# Altium schematic symbol library EMDC_Miscellaneous.SchLib: 50 symbols
Pins are listed as number, name and electrical type; pins without a type are passive.

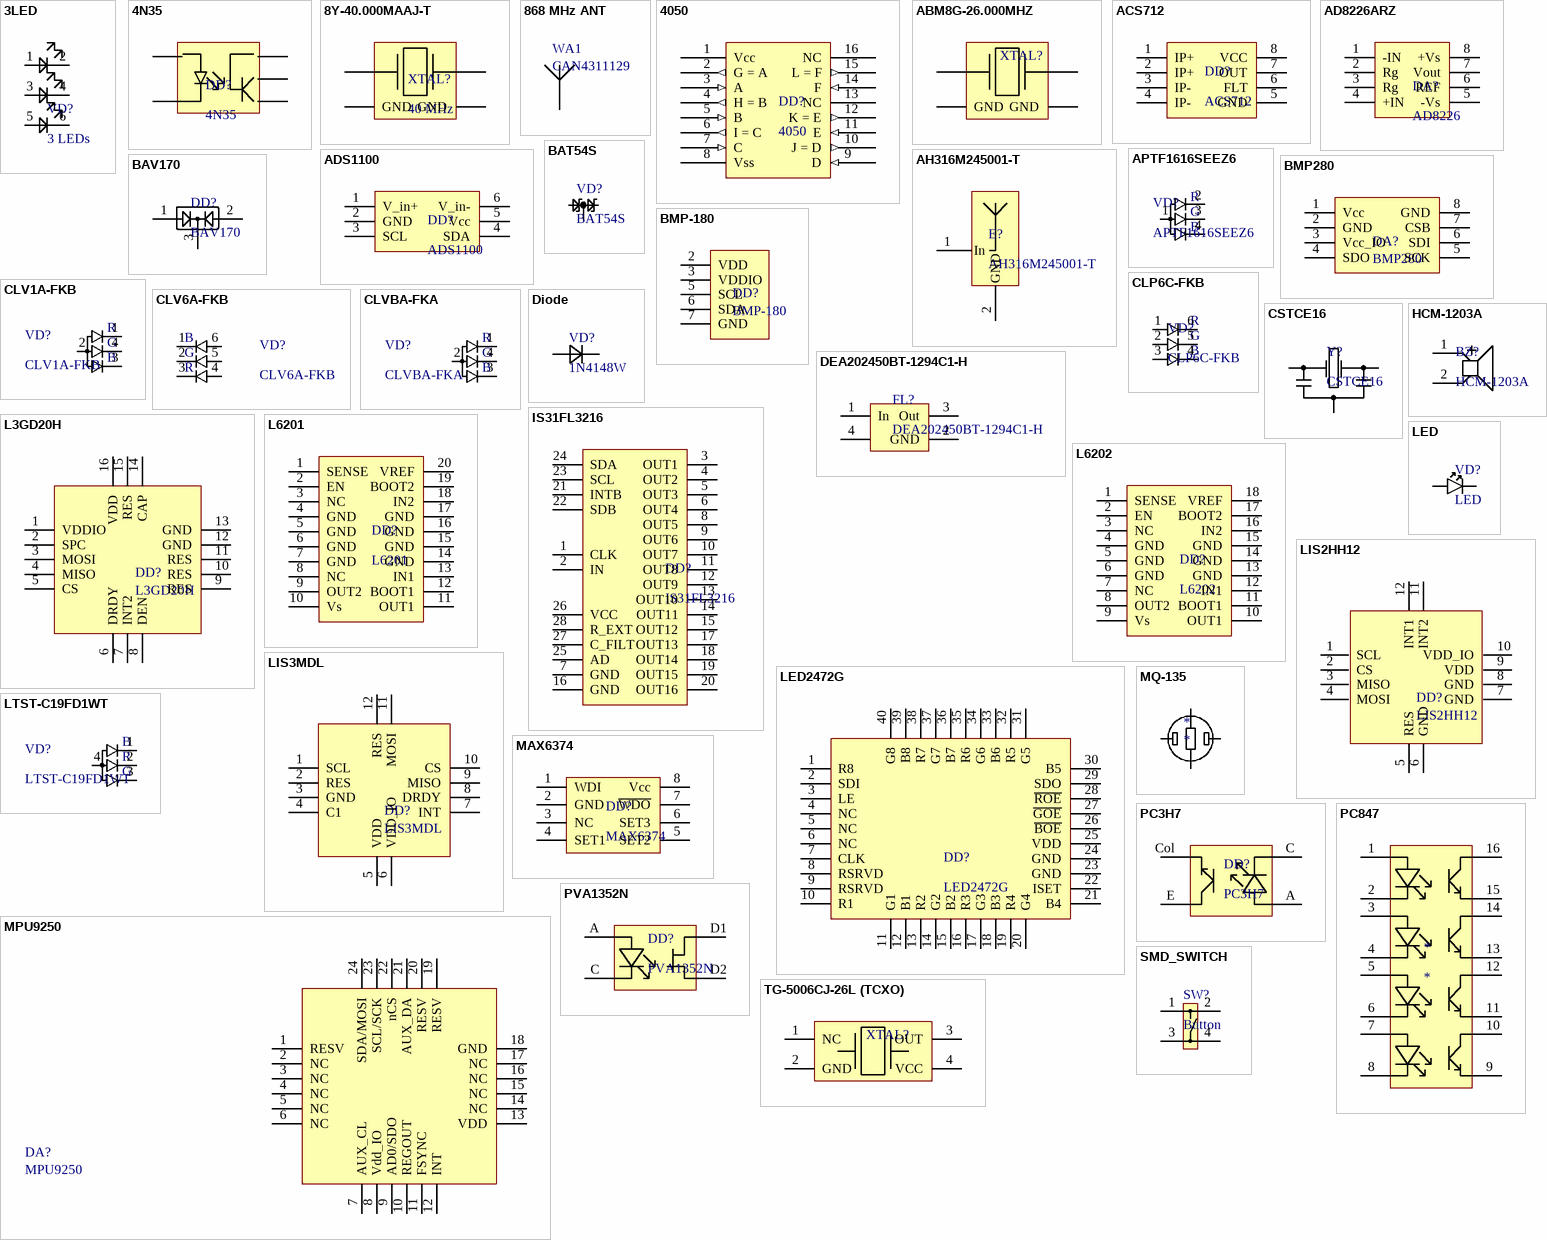
[diagram p0: symbols 3LED to TG-5006CJ-26L (TCXO)]

## 3LED
designator VD?, comment 3 LEDs
3 LEDs with lightguide
footprint 3LED_Guide
pins: 1 A, 2 A, 3 A, 4 A, 5 A, 6 A

## 4N35
designator DD?
SMD optocoupler
footprint 4N35
footprint DIP-6
pins: 1 VREF, 2 VREF, 4 VREF, 5 VREF, 6 VREF

## 8Y-40.000MAAJ-T
designator XTAL?, comment 40 MHz
Resonator 8Y-40.000MAAJ-T 18pF 40MHz 30ppm
footprint 8Y-40.000MAAJ-T
pins: 1, 2 GND, 3, 4 GND

## 868 MHz ANT
designator WA1, comment CAN4311129
footprint CAN4311129090871K
pins: 1 ANT

## 4050
designator DD?
6ch buffer
footprint SO-16
pins: 1 Vcc (power), 2 G = A (out), 3 A (in), 4 H = B (out), 5 B (in), 6 I = C (out), 7 C (in), 8 Vss (power), 9 D (in), 10 J = D (out), 11 E (in), 12 K = E (out), 13 NC, 14 F (in), 15 L = F (out), 16 NC

## ABM8G-26.000MHZ
designator XTAL?, comment Quartz  (value not drawn)
Resonator ABM8G-26.000MHZ-18-D2Y-T
footprint ABM8G-26.000MHZ
pins: 1, 2 GND, 3, 4 GND

## ACS712
designator DD?
Current meter IC
footprint SO-8
pins: 1 IP+, 2 IP+, 3 IP-, 4 IP-, 5 GND, 6 FLT, 7 OUT, 8 VCC

## AD8226ARZ
designator DA?, comment AD8226
Rail-to-rail instrumental OpAmp
footprint SOIC-8N
pins: 1 -IN, 2 Rg, 3 Rg, 4 +IN, 5 -Vs, 6 REF, 7 Vout, 8 +Vs

## ADS1100
designator DD?
I2C ADC with PGA
footprint SOT-23-6
pins: 1 V_in+, 2 GND, 3 SCL, 4 SDA, 5 Vcc, 6 V_in-

## AH316M245001-T
designator E?
AH316M245001-T 2.4GHz Antenna
footprint AH316M245001-T (AH316M245001-T 2.4GHz antenna)
pins: 1 In, 2 GND

## APTF1616SEEZ6
designator VD?
RGB LED Kingbright APTF1616SEEZ6
footprint APTF1616SEEZ6 (RGB LED Kingbright APTF1616SEEZ6)
pins: 1, 2, 3, 4
text: R; G; B

## BAT54S
designator VD?
2x schottky barrier
footprint SOT-23-3
pins: 1 K, 2 A, 3 (power)

## BAV170
designator DD?
Dual Diode Common Cathode SOT23
footprint SOT-23-3
pins: 1 VDD, 2 VDD, 3

## BMP280
designator DA?
Digital Pressure Sensor
footprint SOP8
pins: 1 Vcc, 2 GND, 3 Vcc_IO, 4 SDO, 5 SCK, 6 SDI, 7 CSB, 8 GND

## BMP-180
designator DD?
Digital pressure sensor
footprint BMP-180
pins: 2 VDD, 3 VDDIO, 5 SCL, 6 SDA, 7 GND

## CLP6C-FKB
designator VD?
RGB LED Cree CLP6C-FKB
footprint CLP6C-FKB (RGB LED Cree CLP6C-FKB)
pins: 1, 2, 3, 4, 5, 6
text: R; G; B

## CLV1A-FKB
designator VD?
RGB LED Cree CLV1A-FKB
footprint CLV1A-FKB (RGB LED Cree CLV1A-FKB)
pins: 1, 2, 3, 4
text: R; G; B

## CLV6A-FKB
designator VD?
RGB LED Cree CLV6A-FKB
footprint CLV6A-FKB (RGB LED Cree)
pins: 1, 2, 3, 4, 5, 6
text: B; G; R

## CLVBA-FKA
designator VD?
RGB LED Cree CLVBA-FKA
footprint CLVBA-FKA (RGB LED Cree)
pins: 1, 2, 3, 4
text: R; G; B

## CSTCE16
designator Y?
Resonator ceramic
footprint CSTCE16
pins: 1 X1, 2 GND, 3 X2

## DEA202450BT-1294C1-H
designator FL?
DEA202450BT-1294C1-H 2.4GHz filter
footprint DEA202450BT-1294C1-H (2.4GHz filter)
pins: 1 In, 2 GND, 3 Out, 4 GND

## Diode
designator VD?, comment 1N4148W
SMD diode
footprint D0805
footprint D0805M
footprint D0603
footprint D0603M
footprint D0402
footprint D0402M
footprint D1206
footprint D1206M
footprint SOD-323
footprint SOD-123 (SOD-123 diode package)
pins: 1 K, 2 A

## HCM-1203A
designator BZ?
HCM-1203A buzzer
footprint HCM-1203A (Buzzer)
pins: 1, 2

## IS31FL3216
designator DD?
IS31FL3216 LED Driver
footprint QFN-28
pins: 1 CLK, 2 IN, 3 OUT1, 4 OUT2, 5 OUT3, 6 OUT4, 7 GND, 8 OUT5, 9 OUT6, 10 OUT7, 11 OUT8, 12 OUT9, 13 OUT10, 14 OUT11, 15 OUT12, 16 GND, 17 OUT13, 18 OUT14, 19 OUT15, 20 OUT16, 21 INTB, 22 SDB, 23 SCL, 24 SDA, 25 AD, 26 VCC, 27 C_FILT, 28 R_EXT

## L3GD20H
designator DD?
Low-power three-axis gyroscope
footprint LGA-16
pins: 1 VDDIO, 2 SPC, 3 MOSI, 4 MISO, 5 CS, 6 DRDY, 7 INT2, 8 DEN, 9 RES, 10 RES, 11 RES, 12 GND, 13 GND, 14 CAP, 15 RES, 16 VDD

## L6201
designator DD?
Motor driver
footprint SO-20
pins: 1 SENSE, 2 EN, 3 NC, 4 GND, 5 GND, 6 GND, 7 GND, 8 NC, 9 OUT2, 10 Vs, 11 OUT1, 12 BOOT1, 13 IN1, 14 GND, 15 GND, 16 GND, 17 GND, 18 IN2, 19 BOOT2, 20 VREF

## L6202
designator DD?
Motor driver
footprint DIP-18
pins: 1 SENSE, 2 EN, 3 NC, 4 GND, 5 GND, 6 GND, 7 NC, 8 OUT2, 9 Vs, 10 OUT1, 11 BOOT1, 12 IN1, 13 GND, 14 GND, 15 GND, 16 IN2, 17 BOOT2, 18 VREF

## LED
designator VD?
LED SMD&DIP
footprint D0805
footprint D0805M
footprint D0402
footprint D0402M
footprint D0603
footprint D0603M
footprint D1206
footprint D1206M
pins: 1, 2

## LED2472G
designator DD?
LED2472G LED Driver
footprint MLPQ-40EP
pins: 1 R8, 2 SDI, 3 LE, 4 NC, 5 NC, 6 NC, 7 CLK, 8 RSRVD, 9 RSRVD, 10 R1, 11 G1, 12 B1, 13 R2, 14 G2, 15 B2, 16 R3, 17 G3, 18 B3, 19 R4, 20 G4, 21 B4, 22 ISET, 23 GND, 24 GND, 25 VDD, 26 ~{BOE}, 27 ~{GOE}, 28 ~{ROE}, 29 SDO, 30 B5, 31 G5, 32 R5, 33 B6, 34 G6, 35 R6, 36 B7, 37 G7, 38 R7, 39 B8, 40 G8

## LIS2HH12
designator DD?
Low power 3-axis magnetic sensor
footprint LGA-12
pins: 1 SCL, 2 CS, 3 MISO, 4 MOSI, 5 RES, 6 GND, 7 GND, 8 GND, 9 VDD, 10 VDD_IO, 11 INT2, 12 INT1

## LIS3MDL
designator DD?
Ultra-low-power high performance  three-axis magnetic sensor
footprint LGA-12
pins: 1 SCL, 2 RES, 3 GND, 4 C1, 5 VDD, 6 VDD_IO, 7 INT, 8 DRDY, 9 MISO, 10 CS, 11 MOSI, 12 RES

## LTST-C19FD1WT
designator VD?
RGB LED LiteOn TST-C19FD1WT
footprint LTST-C19FD1WT (RGB LED LightOn)
pins: 1, 2, 3, 4
text: B; R; G

## MAX6374
designator DD?
Watchdog
footprint SOT-23-8
pins: 1 WDI, 2 GND, 3 NC, 4 SET1, 5 SET2, 6 SET3, 7 ~{WDO}, 8 Vcc

## MPU9250
designator DA?
9-DOF MEMS
footprint QFN-24
pins: 1 RESV, 2 NC, 3 NC, 4 NC, 5 NC, 6 NC, 7 AUX_CL, 8 Vdd_IO, 9 AD0/SDO, 10 REGOUT, 11 FSYNC, 12 INT, 13 VDD, 14 NC, 15 NC, 16 NC, 17 NC, 18 GND, 19 RESV, 20 RESV, 21 AUX_DA, 22 nCS, 23 SCL/SCK, 24 SDA/MOSI

## MQ-135
designator *
footprint MQ-135
pins: A, B, H1, H2

## PC3H7
designator DD?
optron 1x
footprint PC3H7
pins: A Andoe, C Cathode, Col Collector, E Emitter

## PC847
designator *
optron 4x
footprint DIP-16
pins: 1 A1, 2 C1, 3 A2, 4 C2, 5 A3, 6 C3, 7 A4, 8 C4, 9 Col4, 10 E4, 11 Col3, 12 E3, 13 Col2, 14 E2, 15 Col1, 16 E1

## PVA1352N
designator DD?
optron 1x (AC/DC)
footprint PVA1352N
pins: A Andoe, C Cathode, D1 Drain, D2 Drain

## SMD_SWITCH
designator SW?, comment Button
footprint SMD_SWITCH
pins: 1 RST, 2 RST, 3 RST, 4 RST

## TG-5006CJ-26L (TCXO)
designator XTAL?, comment Quartz  (value not drawn)
Resonator TG-5006CJ-26L (EPSON X1G0041310017)
footprint TG-5006CJ-26L (TCXO)
pins: 1 NC, 2 GND, 3 OUT, 4 VCC

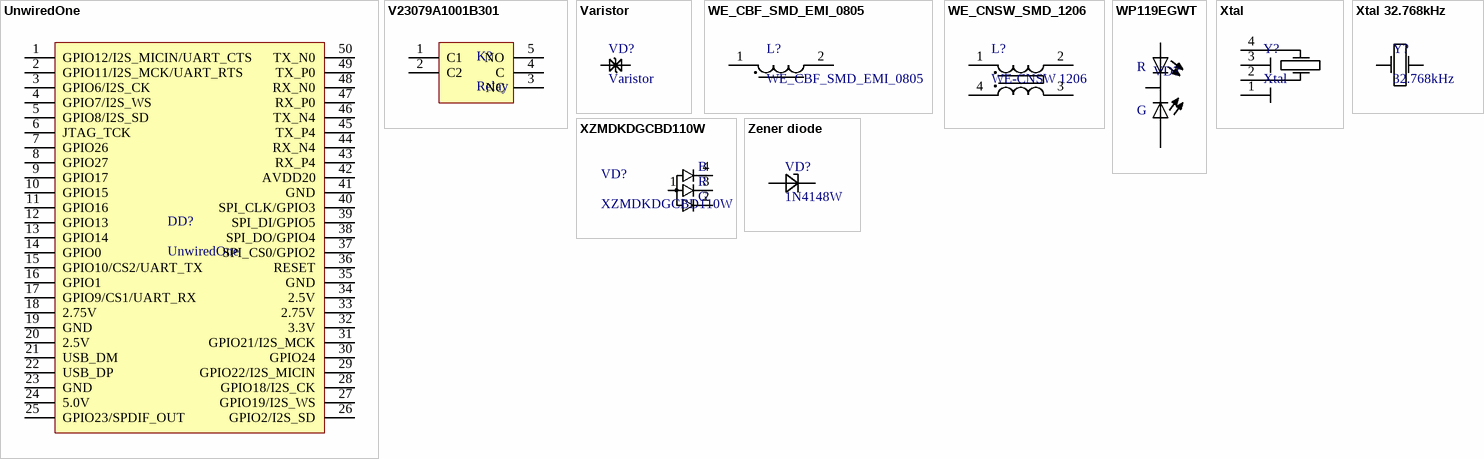
[diagram p1: symbols UnwiredOne to Zener diode]

## UnwiredOne
designator DD?
UnwiredOne one-board computer with wi-fi
footprint UnwiredOne (UnwiredOne board)
pins: 1 GPIO12/I2S_MICIN/UART_CTS, 2 GPIO11/I2S_MCK/UART_RTS, 3 GPIO6/I2S_CK, 4 GPIO7/I2S_WS, 5 GPIO8/I2S_SD, 6 JTAG_TCK, 7 GPIO26, 8 GPIO27, 9 GPIO17, 10 GPIO15, 11 GPIO16, 12 GPIO13, 13 GPIO14, 14 GPIO0, 15 GPIO10/CS2/UART_TX, 16 GPIO1, 17 GPIO9/CS1/UART_RX, 18 2.75V, 19 GND, 20 2.5V, 21 USB_DM, 22 USB_DP, 23 GND, 24 5.0V, 25 GPIO23/SPDIF_OUT, 26 GPIO2/I2S_SD, 27 GPIO19/I2S_WS, 28 GPIO18/I2S_CK, 29 GPIO22/I2S_MICIN, 30 GPIO24, 31 GPIO21/I2S_MCK, 32 3.3V, 33 2.75V, 34 2.5V, 35 GND, 36 RESET, 37 SPI_CS0/GPIO2, 38 SPI_DO/GPIO4, 39 SPI_DI/GPIO5, 40 SPI_CLK/GPIO3, 41 GND, 42 AVDD20, 43 RX_P4, 44 RX_N4, 45 TX_P4, 46 TX_N4, 47 RX_P0, 48 RX_N0, 49 TX_P0, 50 TX_N0

## V23079A1001B301
designator K?, comment Relay
TYCO THT Relay 250V 2A
footprint TYCO THT Relay 250V 2A
pins: 1 C1, 2 C2, 3 NC (power), 4 C (power), 5 NO (power)

## Varistor
designator VD?
footprint 0805
footprint 0603
footprint 0603m
footprint 0805M
pins: 1, 2

## WE_CBF_SMD_EMI_0805
designator L?
WE-CBF SMD EMI Suppression Ferrite Bead 0805 742792042
footprint 0805
footprint 0805M
pins: 1, 2

## WE_CNSW_SMD_1206
designator L?, comment WE-CNSW 1206
WE-CNSW SMD 1206 Common Mode Line Filter 744232222
footprint WE_CNSW_SMD_1206 (WE-CNSW SMD 1206 Common Mode Line Filter 744232222)
pins: 1, 2, 3, 4

## WP119EGWT
designator VD?  (value not drawn)
Red&Green LED WP119EGWT
footprint WP119EGWT (Two color LED)
pins: 1, 2, 3
text: R; G

## Xtal
designator Y?
Quartz crystal
footprint Xtal 0705
footprint Xtal 0532
footprint FT13A (Quartz crystal FT13A package)
pins: 1 X1, 2 GND, 3 X2, 4 GND

## Xtal 32.768kHz
designator Y?, comment 32.768kHz
Quartz crystal
footprint HC-2.0x6.2
footprint HC-2.0x6.2H
footprint ABS07 (Quartz ABS07 package)
pins: 1, 2

## XZMDKDGCBD110W
designator VD?
RGB LED SunLED XZMDKDGCBD110W
footprint XZMDKDGCBD110W (RGB LED SunLED XZMDKDGCBD110W)
pins: 1, 2, 3, 4
text: B; R; G

## Zener diode
designator VD?, comment 1N4148W
SMD Zener diode
footprint D0805
footprint D0805M
footprint D0603
footprint D0603M
footprint D0402
footprint D0402M
footprint D1206
footprint D1206M
pins: 1 K, 2 A